# Altium schematic symbol library 4018.Schlib: 1 symbol
Pins are listed as number, name and electrical type; pins without a type are passive.

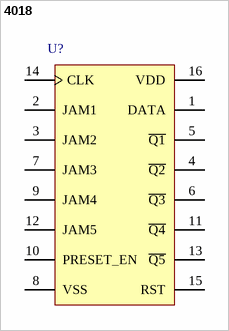
[diagram p0: symbol 4018]

## 4018
designator U?  (value not drawn)
Divide by N Counter
pins: 1 DATA, 2 JAM1, 3 JAM2, 4 ~{Q2}, 5 ~{Q1}, 6 ~{Q3}, 7 JAM3, 8 VSS, 9 JAM4, 10 PRESET_EN, 11 ~{Q4}, 12 JAM5, 13 ~{Q5}, 14 CLK, 15 RST, 16 VDD